# EAGLE library part PT2399 (library mmoretti)
Echo Processor IC
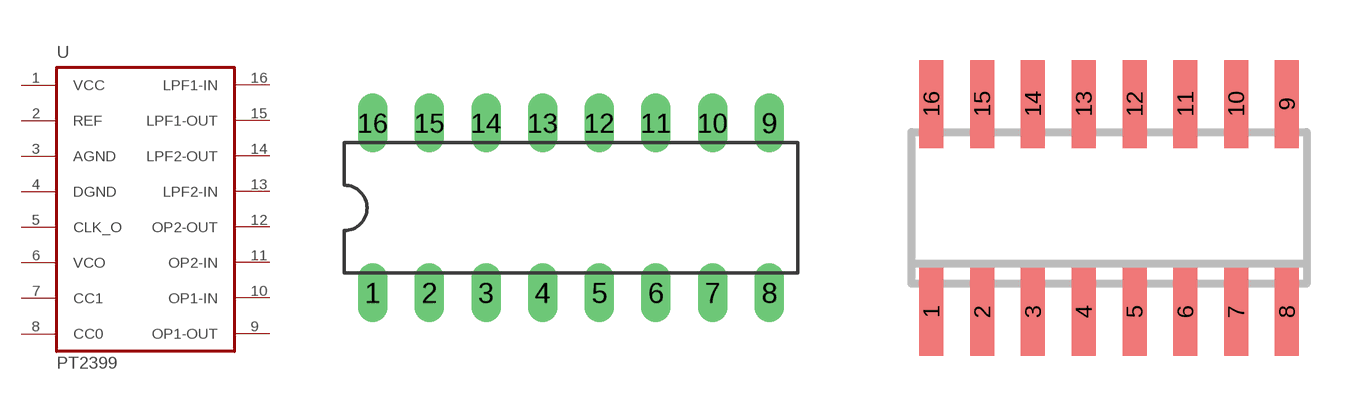
[diagram p30: symbol with the pads of DIL16; footprints DIL16, SO16]

Designator prefix U

## PT2399PP  [DIL16]
1  VCC  pwr
2  REF  in
3  AGND  pwr
4  DGND  pwr
5  CLK_O  out
6  VCO  in
7  CC1  in
8  CC0  in
9  OP1-OUT  out
10  OP1-IN  in
11  OP2-IN  in
12  OP2-OUT  out
13  LPF2-IN  in
14  LPF2-OUT  out
15  LPF1-OUT  out
16  LPF1-IN  in

## PT2399SO  [SO16]
Pads as for DIL16

## Footprint DIL16 (pad centres in mm)
Dual In Line Package
drill 0.813 long: 1 -8.89,-3.81; 2 -6.35,-3.81; 3 -3.81,-3.81; 4 -1.27,-3.81; 5 1.27,-3.81; 6 3.81,-3.81; 7 6.35,-3.81; 8 8.89,-3.81; 9 8.89,3.81; 10 6.35,3.81; 11 3.81,3.81; 12 1.27,3.81; 13 -1.27,3.81; 14 -3.81,3.81; 15 -6.35,3.81; 16 -8.89,3.81

## Footprint SO16 (pad centres in mm)
SMALL OUTLINE INTEGRATED CIRCUIT body 3.9 mm/JEDEC MS-012AC
smd 0.6 x 2.2: 1 -4.445,-2.6; 2 -3.175,-2.6; 3 -1.905,-2.6; 4 -0.635,-2.6; 5 0.635,-2.6; 6 1.905,-2.6; 7 3.175,-2.6; 8 4.445,-2.6; 9 4.445,2.6; 10 3.175,2.6; 11 1.905,2.6; 12 0.635,2.6; 13 -0.635,2.6; 14 -1.905,2.6; 15 -3.175,2.6; 16 -4.445,2.6